# Altium schematic symbol library STM32F051C6 Lite Development Board.SchLib: 6 symbols
Pins are listed as number, name and electrical type; pins without a type are passive.

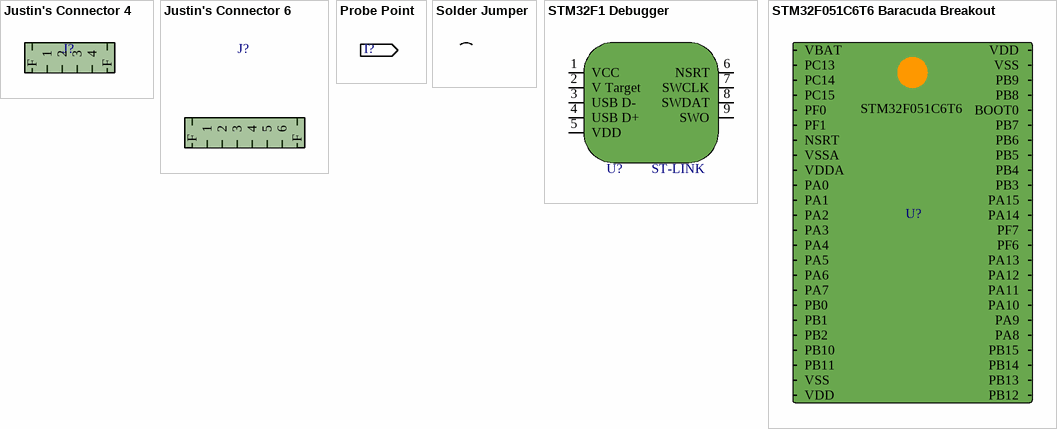
[diagram p0: symbols Justin's Connector 4 to STM32F051C6T6 Baracuda Breakout]

## Justin's Connector 4
designator J?  (value not drawn)
Justin's Weird Connector 4 Pin
footprint Justin's Connector 4
pins: 1, 2, 3, 4, 5 F, 6 F

## Justin's Connector 6
designator J?  (value not drawn)
Justin's Weird Connector 6 Pin
footprint Justin's Connector 6
pins: 1, 2, 3, 4, 5, 6, 7 F, 8 F

## Probe Point
designator I?  (no BOM)
footprint Probe Pad (Standard Small Probe Point)
pins: 0

## Solder Jumper
designator B?  (value not drawn)  (no BOM)
footprint Solder Bridge (Small Solder Bridge Pad)
pins: 1, 2

## STM32F1 Debugger
designator U?, comment ST-LINK
footprint STM Debugger (STM32F1 Debugger Module)
pins: 1 VCC, 2 V Target, 3 USB D-, 4 USB D+, 5 VDD, 6 NSRT, 7 SWCLK, 8 SWDAT, 9 SWO

## STM32F051C6T6 Baracuda Breakout
designator U?  (value not drawn)
footprint STM32F051C6T6 Baracuda Breakout (Breakout Board Footprint for STN32F051C6T6)
pins: 1 VBAT (in), 2 PC13 (io), 3 PC14 (io), 4 PC15 (io), 5 PF0 (in), 6 PF1 (in), 7 NSRT (in), 8 VSSA (power), 9 VDDA (power), 10 PA0 (io), 11 PA1 (io), 12 PA2 (io), 13 PA3 (io), 14 PA4 (io), 15 PA5 (io), 16 PA6 (io), 17 PA7 (io), 18 PB0 (io), 19 PB1 (io), 20 PB2 (io), 21 PB10 (io), 22 PB11 (io), 23 VSS (power), 24 VDD (power), 25 PB12 (io), 26 PB13 (io), 27 PB14 (io), 28 PB15 (io), 29 PA8 (io), 30 PA9 (io), 31 PA10 (io), 32 PA11 (io), 33 PA12 (io), 34 PA13 (io), 35 PF6 (io), 36 PF7 (io), 37 PA14 (io), 38 PA15 (io), 39 PB3 (io), 40 PB4 (io), 41 PB5 (io), 42 PB6 (io), 43 PB7 (io), 44 BOOT0 (in), 45 PB8 (io), 46 PB9 (io), 47 VSS (power), 48 VDD (power)
text: STM32F051C6T6